# EAGLE library part LM358 (library BME_Components)
Low Power Dual Operational Amplifier, 8-pin MDIP
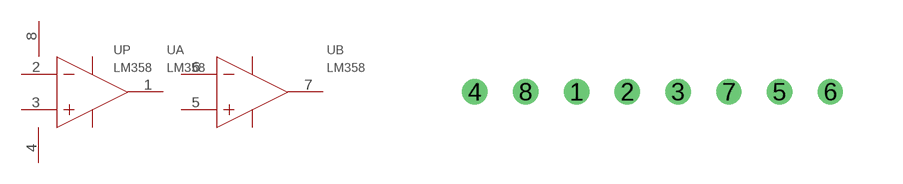
[diagram p20: symbol with the pads of LM358_PDIP-8; footprint LM358_PDIP-8]

Designator prefix U; gates P=LM358_P A=LM358_A B=LM358_B

## LM358LM358_LM358_PDIP-8 (CODE_JEDEC: MS-001-BA; COMPONENTLINK1DESCRIPTION: LM358 Datasheet; COMPONENTLINK1URL: http://www.national.com/ds/LM/LM358.pdf; COMPONENTLINK2DESCRIPTION: LM358 Web Page; COMPONENTLINK2URL: http://www.national.com/pf/LM/LM358.html; COMPONENTLINK3DESCRIPTION: N08E Package Page; COMPONENTLINK3URL: http://www.national.com/packaging/folders/n08e.html; COMPTYPE: Amplifiers; DATASHEETVERSION: Oct-2005; MANUFACTURER: National Semiconductor; PACKAGEDESCRIPTION: MDIP, .365 x .250 x .130in, 8 Lead, .100in Pitch; PACKAGEREFERENCE: N08E; PACKAGETOPMARKING: NSUZXYTTE#*LM*358N; PACKAGEVERSION: revG, May-2006; PARTID: 1; PINCOUNT: 8; POWERWISE: N; REVISIONNOTE: Component URLs added; ROHS: N)  [LM358_PDIP-8]
1  A:OUTA  out
2  A:INA-  in
3  A:INA+  in
4  P:GND  pwr
5  B:INB+  in
6  B:INB-  in
7  B:OUTB  out
8  P:V+  pwr

## Footprint LM358_PDIP-8 (pad centres in mm)
drill 0.127 pad 0.254 round: 1 2.54,0; 2 3.81,0; 3 5.08,0; 4 0,0; 5 7.62,0; 6 8.89,0; 7 6.35,0; 8 1.27,0